# Altium schematic symbol library MMT_BJTs_FETs_TRIACs.SchLib: 13 symbols
Pins are listed as number, name and electrical type; pins without a type are passive.

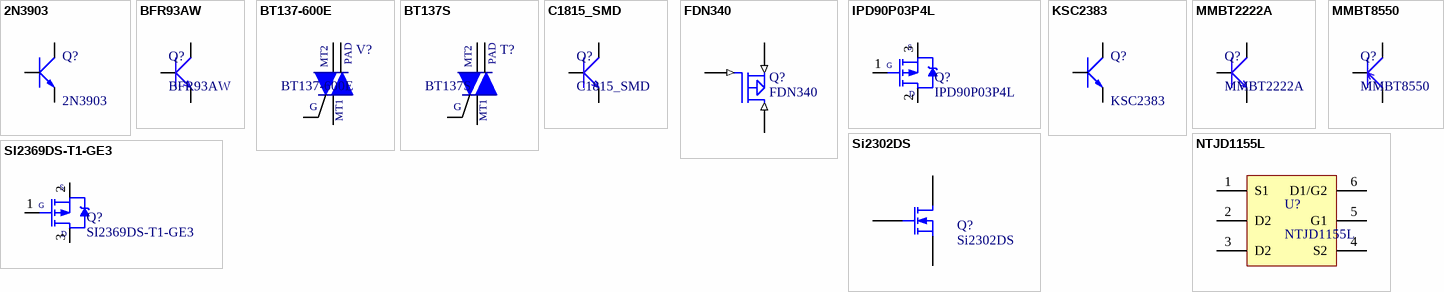
[diagram p0: symbols 2N3903 to SI2369DS-T1-GE3]

## 2N3903
designator Q?
Bipolar Transistors - BJT NPN Gen Pur SS; Manufacturer: Central Semiconductor; Ex Price: 0.57; Part Number: 2N3903; Ex Supplier: https://www.mouser.vn/ProductDetail/Central-Semiconductor/2N3903?qs=Ypxpq5eNvNWO9wrfjwx1SA==; Package: TO-92
footprint TO-92
pins: 1 E, 2 C, 3 B

## BFR93AW
designator Q?
RF TRANS NPN 12V 5GHZ SOT323-3; Manufacturer: Infineon Technologies; Part Number: BFR93AWH6327XTSA1; Voltage/Wattage: 12V/300mW; Ex Price: 0.38; Ex Supplier: https://www.digikey.com/product-detail/en/infineon-technologies/BFR93AWH6327XTSA1/BFR93AWH6327XTSA1CT-ND/3915406; Package: SOT23-3
footprint SOT-323
pins: 1, 2, 3

## BT137-600E
designator V?
TRIAC SENS GATE 600V 8A SOT78 (TO-220AB); Manufacturer: WeEn Semiconductors; Part Number: BT137-600E,127; Value: BT137; VN Price: 4000; Voltage/Wattage: 600V/8A; Ex Price: 0.66; Ex Supplier: https://www.mouser.vn/ProductDetail/WeEn-Semiconductors/BT137-600E127?qs=me8TqzrmIYUZpSeuBf3dRg%3D%3D; VN Supplier: https://www.thegioiic.com/products/bt137-600e; Package: TO-220AB-3
footprint TO-220AB
pins: 1 MT1, 2 MT2, 2 PAD, 3 G

## BT137S
designator T?
TRIAC SENS GATE 600V 8A DPAK; Manufacturer: WeEn Semiconductors; Part Number: BT137S-600D,118; VN Price: 3000; Voltage/Wattage: 600V/8A; Ex Price: 0.68; Value: BT137S; Ex Supplier: https://www.mouser.vn/ProductDetail/WeEn-Semiconductors/BT137S-600D118?qs=sGAEpiMZZMuAO0%252BGuNbnQsYOkIrSb%2F6X51XzDinzcsQ%3D; VN Supplier: https://thegioiic.com/products/bt137s-600e; Package: DPAK-3
footprint DPAK
pins: 1 MT1, 2 MT2, 2 PAD, 3 G

## C1815_SMD
designator Q?
NPN transistor, SOT23-3 package; Manufacturer: Toshiba; VN Price: 300; Value: 2SC1815 SMD; Voltage/Wattage: 150mA; VN Supplier: https://thegioiic.com/products/2sc1815-hf; Ex Supplier: *; Part Number: *; Package: SOT23-3; Tolerance: *; Ex Price: *
footprint SOT23-3
pins: 1, 2, 3

## FDN340
designator Q?
MOSFET P-CH 20V 2A SSOT3; Manufacturer: ON Semiconductor / Fairchild; Part Number: FDN340P; VN Price: 4500; Value: FDN340P; Voltage/Wattage: 20V/2A; Ex Price: 0.41; Ex Supplier: https://www.mouser.vn/ProductDetail/ON-Semiconductor-Fairchild/FDN340P?qs=%2Fha2pyFadugx5dlaynRrnXIK9Uy7ZvYJCmaC9ivgPok%3D; VN Supplier: https://thegioiic.com/products/fdn340p; Package: SSOT-3; Tolerance: *
footprint FDN340P (SOT-23)
pins: 1 S (in), 2 D (in), 3 G (in)

## IPD90P03P4L
designator Q?
MOSFET P-Ch -30V -90A DPAK-2 OptiMOS-P2; Manufacturer: Infineon Technologies; Part Number: IPD90P03P4L04ATMA1; Voltage/Wattage: 30V/90A; Ex Price: 1.83; Ex Supplier: https://www.mouser.vn/ProductDetail/Infineon-Technologies/IPD90P03P4L04ATMA1?qs=sGAEpiMZZMshyDBzk1%2FWi4lI00SCTc04Q0WBnpIcAdM%3D; Package: PG-TO-252-3; Value: IPD90P03P4L; Tolerance: *
footprint DPAK
pins: 1 G, 2 D, 3 S

## KSC2383
designator Q?
NPN Transistor 160V 1A 0.9W; Manufacturer: ON Semiconductor / Fairchild; Part Number: KSC2383YTA; Ex Price: 0.46; VN Price: 3000; Voltage/Wattage: 160V/1A; Package: TO-92-3; Ex Supplier: https://www.mouser.vn/ProductDetail/ON-Semiconductor-Fairchild/KSC2383YTA?qs=sGAEpiMZZMshyDBzk1%2FWi8oN7VHZ91OkWdF5arSiR20%3D; VN Supplier: http://www.tme.vn/Product.aspx?id=1279#page=pro_info
footprint QTO-92 (TO-92)
pins: 1 E, 2 C, 3 B

## MMBT2222A
designator Q?
NPN General-Purpose Amplifier SMD Transistor; Manufacturer: ON; Part Number: MMBT2222ALT1G; VN Price: 800; Voltage/Wattage: 1000mA; Ex Price: 0.13; VN Supplier: http://tme.vn/Product.aspx?id=642#page=pro_info; Ex Supplier: https://www.mouser.vn/ProductDetail/ON-Semiconductor/MMBT2222ALT1G?qs=sGAEpiMZZMtqO%252BWUGLBzeDhtPKLYeImD; Package: SOT23-3; Value: MMBT2222A
footprint SOT23-3
pins: 1, 2, 3

## MMBT8550
designator Q?
PNP transistor, SOT23-3 package; Manufacturer: ST(Semtech); Part Number: MMBT8550D(2TY); VN Price: 500; Voltage/Wattage: 700mA/225mW; Ex Price: 0.01; VN Supplier: https://www.thegioiic.com/products/mmbt8550-y2-transistor-pnp-25v-0-7a-sot-23; Ex Supplier: https://lcsc.com/product-detail/Transistors-NPN-PNP_ST-Semtech-MMBT8550D-2TY_C47399.html; Package: SOT23-3
footprint SOT23-3
pins: 1, 2, 3

## NTJD1155L
designator U?
MOSFET 8V +/-1.3A P-Channel w/Level Shift; Manufacturer: ON Semiconductor; Part Number: NTJD1155LT1G; Ex Price: 0.41; Ex Supplier: https://www.mouser.vn/ProductDetail/ON-Semiconductor/NTJD1155LT1G?qs=ZXBb0xZ9WeDuxsAHOCV2WA%3D%3D; Package: SC-88-6
footprint SOT-363
pins: 1 S1, 2 D2, 3 D2, 4 S2, 5 G1, 6 D1/G2

## Si2302DS
designator Q?
MOSFET P-CH 20V 2A SSOT3; Manufacturer: Vishay / Siliconix; Part Number: SI2302DDS-T1-GE3; VN Price: 700; Voltage/Wattage: 20V/2.9A; Ex Price: 0.237; Ex Supplier: https://www.mouser.vn/ProductDetail/Vishay-Siliconix/SI2302DDS-T1-GE3?qs=sGAEpiMZZMshyDBzk1%2FWixd2rPD6pasaONsG%252BEEfXSfy7dWyhiO0UA%3D%3D; VN Supplier: https://thegioiic.com/products/si2302ds; Package: SSOT-3; Value: Si2302DS
footprint SOT23-3
pins: 1 G, 2 S, 3 D

## SI2369DS-T1-GE3
designator Q?
MOSFET -30V Vds 20V Vgs SOT-23; Manufacturer: Vishay / Siliconix; Voltage/Wattage: 30V/7.6A; Ex Price: 0.36; Ex Supplier: https://www.mouser.vn/ProductDetail/Vishay-Siliconix/SI2369DS-T1-GE3?qs=sGAEpiMZZMshyDBzk1%2FWi3lxm2Ua4yoZKm2m%2FN1axUI3qONGPmKhRA%3D%3D; Part Number: SI2369DS-T1-GE3; Package: SOT-23-3; Value: SI2369DS-T1-GE3
footprint SOT23-3
pins: 1 G, 2 S, 3 D